# Altium schematic symbol library PPC_notebook_electrical_schematics_v0.6_Library.SchLib: 163 symbols (part 2 of 2)
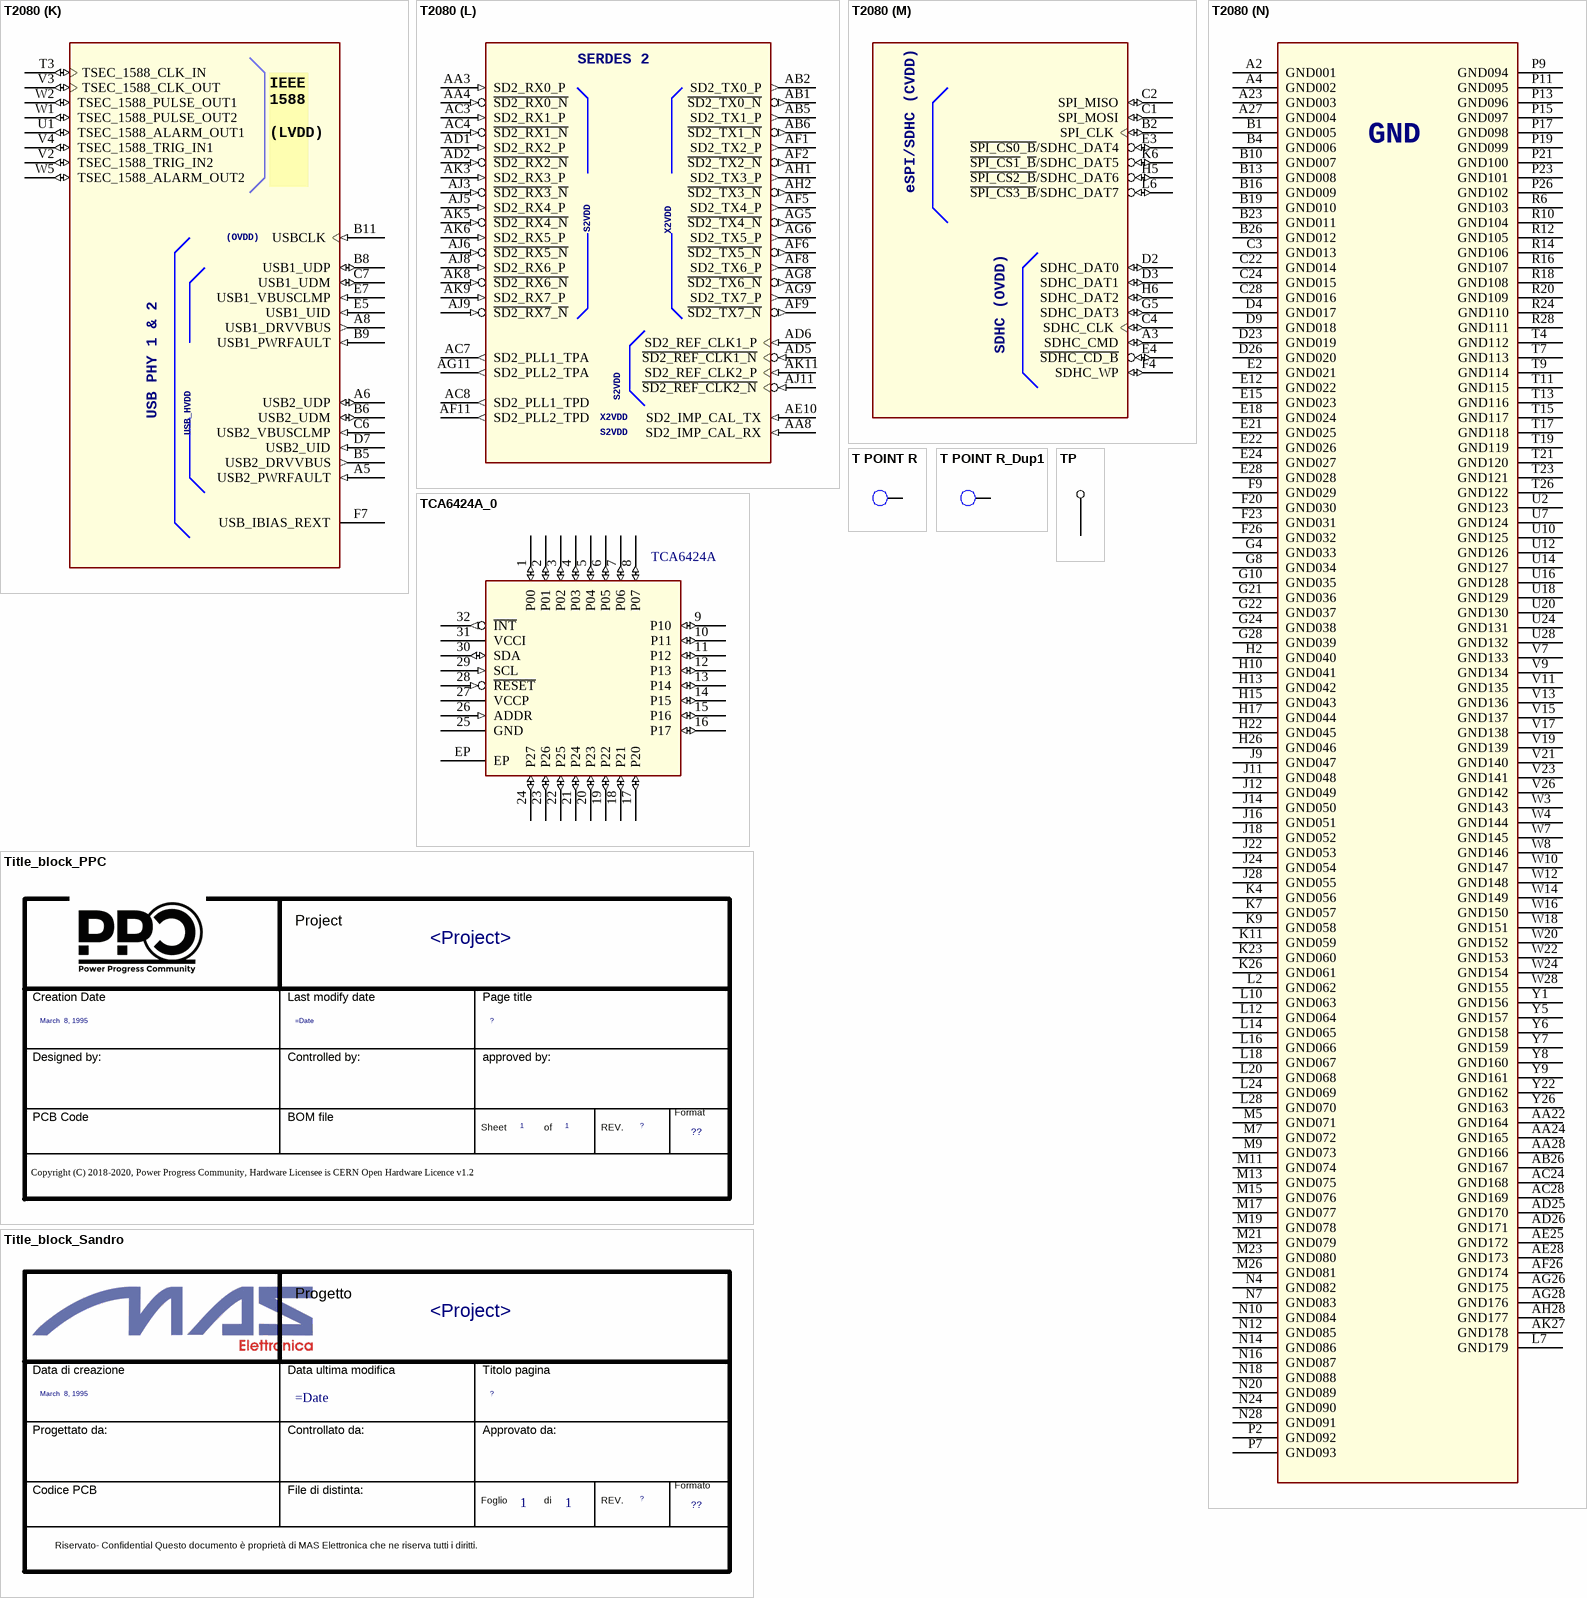
[diagram p14: symbols T2080 to TP]

## T2080
designator U?
footprint bga
part A pins: AA15 SD1_IMP_CAL_RX (in), AC22 SD1_IMP_CAL_TX (in), AD18 SD1_TX2_P (out), AD19 ~{SD1_TX2_N} (out), AD20 SD1_TX4_P (out), AD21 ~{SD1_TX4_N} (out), AD23 SD1_TX7_P (out), AD24 ~{SD1_TX7_N} (out), AE14 SD1_PLL1_TPD (out), AE15 SD1_PLL1_TPA (out), AE16 SD1_TX1_P (out), AE18 ~{SD1_TX3_N} (out), AE21 ~{SD1_TX5_N} (out), AE23 ~{SD1_TX6_N} (out), AF16 ~{SD1_TX1_N} (out), AF18 SD1_TX3_P (out), AF21 SD1_TX5_P (out), AF23 SD1_TX6_P (out), AF25 SD1_PLL2_TPA (out), AG14 SD1_TX0_P (out), AG15 ~{SD1_TX0_N} (out), AG25 SD1_PLL2_TPD (out), AH12 SD1_RX0_P (in), AH13 ~{SD1_RX0_N} (in), AH17 SD1_RX3_P (in), AH18 ~{SD1_RX3_N} (in), AH20 SD1_RX5_P (in), AH21 ~{SD1_RX5_N} (in), AH23 SD1_RX7_P (in), AH24 ~{SD1_RX7_N} (in), AJ13 ~{SD1_RX1_N} (in), AJ15 SD1_REF_CLK1_P (in), AJ17 SD1_RX2_P (in), AJ20 SD1_RX4_P (in), AJ23 SD1_RX6_P (in), AJ25 SD1_REF_CLK2_P (in), AK13 SD1_RX1_P (in), AK15 ~{SD1_REF_CLK1_N} (in), AK17 ~{SD1_RX2_N} (in), AK20 ~{SD1_RX4_N} (in), AK23 ~{SD1_RX6}_~{N} (in), AK25 ~{SD1_REF_CLK2_N} (in)
part B pins: B3 EMI2_MDC (out), F5 EMI2_MDIO (io), L1 EC1_RXD3 (io), L3 EC1_RX_CTL (io), M2 EC1_GTX_CLK125 (io), M3 EC1_TX_CTL (io), M4 EC1_RX_CLK (io), N1 EC1_TXD1 (io), N2 EC1_TXD2 (io), N3 EMI1_MDIO (io), N5 EC1_RXD1 (io), N6 EC1_RXD2 (io), P1 EC1_GTX_CLK (io), R1 EC2_RXD0 (io), R2 EC2_RXD3 (io), R3 EC2_TX_CTL (io), R4 EC1_TXD3 (io), R5 EC1_RXD0 (io), T1 EC2_GTX_CLK (io), T2 EC2_RXD1 (io), T5 EMI1_MDC (out), T6 EC1_TXD0 (io), U3 EC2_TXD2 (io), U4 EC2_RXD2 (io), U5 EC2_TXD1 (io), U6 EC2_RX_CTL (io), V1 EC2_GTX_CLK125 (io), V5 EC2_TXD3 (io), V6 EC2_RX_CLK (io), W6 EC2_TXD0 (io)
part C pins: A13 IFC_AD00 (io), A14 IFC_AD11 (io), A15 IFC_AD04 (io), A16 IFC_A20 (io), A17 IFC_PAR1 (io), A18 ~{IFC_WP0_B} (io), A19 IFC_TE (io), A22 IFC_CLK0 (out), B14 IFC_A21 (io), B15 IFC_AD13 (io), B17 ~{IFC_CS3_B} (io), B18 IFC_A23 (io), B20 IFC_CLK1 (out), B21 IFC_A30 (io), C13 IFC_AD12 (io), C14 IFC_AD02 (io), C15 IFC_A17 (io), C16 IFC_A24 (io), C17 IFC_AVD (io), C18 ~{IFC_CS5_B} (io), C19 ~{IFC_RB1_B} (in), D13 IFC_AD03 (io), D14 IFC_AD15 (io), D15 IFC_A18 (io), D16 IFC_A26 (io), D17 ~{IFC_WE0_B} (io), D18 IFC_NDDDR_CLK (out), D19 ~{IFC_CS2_B} (io), D21 ~{IFC_CS6_B} (io), E13 IFC_AD08 (io), E14 IFC_AD06 (io), E16 IFC_A31 (io), E17 IFC_A25 (io), E19 ~{IFC_CS4_B} (io), F13 IFC_AD05 (io), F14 IFC_AD09 (io), F15 IFC_AD14 (io), F16 IFC_A28 (io), F17 ~{IFC_CS1_B} (io), F18 IFC_PAR0 (io), F19 ~{IFC_PERR_B} (io), G13 IFC_AD01 (io), G14 IFC_A19 (io), G15 IFC_A16 (io), G16 IFC_A29 (io), G17 IFC_A27 (io), G18 ~{IFC_OE_B} (io), G19 ~{IFC_CS7_B} (io), H14 IFC_AD10 (io), H16 ~{IFC_CS0_B} (io), H18 IFC_BCTL (out), H19 IFC_CLE (io), J13 IFC_AD07 (io), J15 IFC_A22 (io), J17 ~{IFC_RB0_B} (in), J19 IFC_NDDQS (io)
part D pins: G2 IIC1_SDA (oc), H3 IIC1_SCL (oc), H4 IIC2_SCL (oc), J2 IIC3_SDA (oc), J6 IIC3_SCL (oc), K1 IIC4_SCL/~{EVT_B5} (oc), K2 IIC2_SDA (oc), M1 IIC4_SDA/~{EVT_B6} (oc)
part E pins: A10 SYSCLK (in), A11 ASLEEP (io), A12 ~{EVT0_B} (io), A20 RTC (io), A21 TMS (in), B12 ~{EVT1_B} (io), B22 ~{TRST_B} (in), C9 ~{TEST_SEL_B} (in), C10 IRQ03/SDHC_VS (io), C11 ~{EVT3_B} (io), C12 ~{IRQ_OUT_B}/~{EVT_B9} (io), C20 TCK (in), C21 ~{TMP_DETECT_B} (io), D1 IRQ11 (io), D10 IRQ02 (io), D11 IRQ05 (io), D12 ~{RESET_REQ_B} (io), D20 ~{CKSTP_OUT_B} (oc), D22 TDI (in), E1 ~{DMA1_DACK0_B} (io), E10 CLK_OUT (out), E11 IRQ01 (io), E20 TDO (out), F3 ~{DMA2_DREQ0_B} (io), F10 ~{PORESET_B} (in), F11 ~{HRESET_B} (io), F12 ~{EVT4_B} (io), G3 ~{DMA2_DDONE0_B}/~{EVT_B8} (io), G11 IRQ00 (io), G12 ~{EVT2_B} (io), H1 ~{DMA2_DACK0_B}/~{EVT_B7} (io), H11 ~{SCAN_MODE_B} (in), H12 IRQ04 (io), J5 IRQ10/SDHC_SYNC_IN (io), J21 TD1_CATHODE, K5 ~{DMA1_DDONE0_B} (io), K22 TD1_ANODE, L5 ~{DMA1_DREQ0_B} (io), P3 IRQ07 (io), P4 IRQ09 (io), P5 IRQ06 (io), P6 IRQ08 (io), R7 ~{LP_TMP_DETECT_B} (in)
part F pins: A29 G1VDD9 (power), AA9 S2VDD6 (power), AB22 X1VDD1 (power), AB29 G1VDD21 (power), AD16 X1VDD2 (power), AD29 G1VDD22 (power), AE3 X2VDD1 (power), AE11 X2VDD2 (power), AF29 G1VDD23 (power), AG3 X2VDD3 (power), AG17 X1VDD3 (power), AG19 X1VDD4 (power), AG20 X1VDD5 (power), AG22 X1VDD6 (power), AG24 X1VDD7 (power), AH4 X2VDD4 (power), AH7 X2VDD5 (power), AH10 X2VDD6 (power), AJ30 G1VDD24 (power), AK29 G1VDD25 (power), B30 G1VDD10 (power), D29 G1VDD11 (power), E8 PROG_MTR (power), E9 PROG_SFP (power), F29 G1VDD12 (power), H20 FA_VL (power), H29 G1VDD13 (power), K8 OVDD1 (power), K10 TH_VDD (power), K12 OVDD2 (power), K13 OVDD3 (power), K14 OVDD4 (power), K15 OVDD5 (power), K16 OVDD6 (power), K17 OVDD7 (power), K18 OVDD8 (power), K19 OVDD9 (power), K20 OVDD10 (power), K29 G1VDD14 (power), L8 OVDD11 (power), L22 G1VDD1 (power), M6 CVDD1 (power), M8 CVDD2 (power), M22 G1VDD2 (power), M29 G1VDD15 (power), N8 DVDD1 (power), N22 G1VDD3 (power), P8 DVDD2 (power), P22 G1VDD4 (power), P29 G1VDD16 (power), R8 VDD_LP (power), R22 G1VDD5 (power), T8 LVDD1 (power), T22 G1VDD6 (power), T29 G1VDD17 (power), T30 G1VDD18 (power), U8 LVDD2 (power), U22 G1VDD7 (power), V8 LVDD3 (power), V22 G1VDD8 (power), V29 G1VDD19 (power), Y11 S2VDD1 (power), Y12 S2VDD2 (power), Y13 S2VDD3 (power), Y14 S2VDD4 (power), Y15 S2VDD5 (power), Y16 S1VDD1 (power), Y17 S1VDD2 (power), Y18 S1VDD3 (power), Y19 S1VDD4 (power), Y20 S1VDD5 (power), Y21 S1VDD6 (power), Y29 G1VDD20 (power)
part G pins: A7 USB_HVDD1 (power), AB11 AVDD_SD2_PLL1 (power), AB14 AVDD_SD2_PLL2 (power), AB17 AVDD_SD1_PLL1 (power), AB20 AVDD_SD1_PLL2 (power), C8 USB_HVDD2 (power), F6 USB_SVDD1 (power), F8 TH_TPA, F22 AVDD_D1 (power), G7 USB_SVDD2 (power), G9 AVDD_CGA2 (power), G20 FA_ANALOG_PIN, H9 AVDD_CGA1 (power), H21 FA_ANALOG_G_V, J7 USB_OVDD1 (power), J8 USB_OVDD2 (power), J10 AVDD_PLAT (power), J20 SENSEVDD, K21 SENSEGND, L9 VDD1 (power), L11 VDD2 (power), L13 VDD3 (power), L15 VDD4 (power), L17 VDD5 (power), L19 VDD6 (power), L21 VDD7 (power), M10 VDD8 (power), M12 VDD9 (power), M14 VDD10 (power), M16 VDD11 (power), M18 VDD12 (power), M20 VDD13 (power), N9 VDD14 (power), N11 VDD15 (power), N13 VDD16 (power), N15 VDD17 (power), N17 VDD18 (power), N19 VDD19 (power), N21 VDD20 (power), P10 VDD21 (power), P12 VDD22 (power), P14 VDD23 (power), P16 VDD24 (power), P18 VDD25 (power), P20 VDD26 (power), R9 VDD27 (power), R11 VDD28 (power), R13 VDD29 (power), R15 VDD30 (power), R17 VDD31 (power), R19 VDD32 (power), R21 VDD33 (power), T10 VDD34 (power), T12 VDD35 (power), T14 VDD36 (power), T16 VDD37 (power), T18 VDD38 (power), T20 VDD39 (power), U9 VDD40 (power), U11 VDD41 (power), U13 VDD42 (power), U15 VDD43 (power), U17 VDD44 (power), U19 VDD45 (power), U21 VDD46 (power), V10 VDD47 (power), V12 VDD48 (power), V14 VDD49 (power), V16 VDD50 (power), V18 VDD51 (power), V20 VDD52 (power), W9 VDD53 (power), W11 VDD54 (power), W13 VDD55 (power), W15 VDD56 (power), W17 VDD57 (power), W19 VDD58 (power), W21 VDD59 (power), Y10 VDD60 (power)
part H pins: A9 USB_AGND1 (power), AA1 X2GND3 (power), AA2 X2GND4 (power), AA5 X2GND5 (power), AA6 X2GND6 (power), AA7 X2GND7 (power), AA10 S2GND1 (power), AA11 S2GND2 (power), AA12 S2GND3 (power), AA13 S2GND4 (power), AA14 S2GND5 (power), AA16 S2GND6 (power), AA17 S1GND1 (power), AA18 S1GND2 (power), AA19 S1GND3 (power), AA20 S1GND4 (power), AA21 S1GND5 (power), AB3 S2GND7 (power), AB4 S2GND8 (power), AB7 S2GND9 (power), AB8 S2GND10 (power), AB9 S2GND11 (power), AB10 AGND_SD2_PLL1 (power), AB12 S2GND12 (power), AB13 AGND_SD2_PLL2 (power), AB15 NC1, AB16 AGND_SD1_PLL1 (power), AB18 S1GND6 (power), AB19 AGND_SD1_PLL2 (power), AB21 X1GND1 (power), AC1 S2GND13 (power), AC2 S2GND14 (power), AC5 S2GND15 (power), AC6 S2GND16 (power), AC9 S2GND17 (power), AC10 S2GND18 (power), AC11 S2GND19 (power), AC12 S2GND20 (power), AC13 S2GND21 (power), AC14 S2GND22 (power), AC15 NC2, AC16 S1GND7 (power), AC17 S1GND8 (power), AC18 S1GND9 (power), AC19 S1GND10 (power), AC20 S1GND11 (power), AC21 X1GND2 (power), AC23 X1GND3 (power), AD3 S2GND23 (power), AD4 S2GND24 (power), AD7 S2GND25 (power), AD8 S2GND26 (power), AD9 NC3, AD10 X2GND8 (power), AD11 X2GND9 (power), AD12 NC4, AD13 NC5, AD14 NC6, AD15 S2GND27 (power), AD17 X1GND4 (power), AD22 X1GND5 (power), AE1 S2GND28 (power), AE2 S2GND29 (power), AE4 X2GND10 (power), AE5 S2GND30 (power), AE6 S2GND31 (power), AE7 X2GND11 (power), AE8 X2GND12 (power), AE9 X2GND13 (power), AE12 NC7, AE13 NC8, AE17 X1GND6 (power), AE19 X1GND7 (power), AE20 X1GND8 (power), AE22 X1GND9 (power), AE24 X1GND10 (power), AF3 X2GND14 (power), AF4 X2GND15 (power), AF7 X2GND16 (power), AF10 X2GND17 (power), AF12 X2GND18 (power), AF13 NC9, AF14 X1GND11 (power), AF15 X1GND12 (power), AF17 X1GND13 (power), AF19 X1GND14 (power), AF20 X1GND15 (power), AF22 X1GND16 (power), AF24 X1GND17 (power), AG1 X2GND19 (power), AG2 X2GND20 (power), AG4 X2GND21 (power), AG7 X2GND22 (power), AG10 X2GND23 (power), AG12 X2GND24 (power), AG13 X1GND18 (power), AG16 X1GND19 (power), AG18 X1GND20 (power), AG21 X1GND21 (power), AG23 X1GND22 (power), AH3 S2GND32 (power), AH5 S2GND33 (power), AH6 S2GND34 (power), AH8 S2GND35 (power), AH9 S2GND36 (power), AH11 S2GND37 (power), AH14 S1GND12 (power), AH15 S1GND13 (power), AH16 S1GND14 (power), AH19 S1GND15 (power), AH22 S1GND16 (power), AH25 S1GND17 (power), AJ1 X2GND25 (power), AJ2 X2GND26 (power), AJ4 S2GND38 (power), AJ7 S2GND39 (power), AJ10 S2GND40 (power), AJ12 S1GND18 (power), AJ14 S1GND19 (power), AJ16 S1GND20 (power), AJ18 S1GND21 (power), AJ19 S1GND22 (power), AJ21 S1GND23 (power), AJ22 S1GND24 (power), AJ24 S1GND25 (power), AJ26 S1GND26 (power), AK2 S2GND41 (power), AK4 S2GND42 (power), AK7 S2GND43 (power), AK10 S2GND44 (power), AK12 S1GND27 (power), AK14 S1GND28 (power), AK16 S1GND29 (power), AK18 S1GND30 (power), AK19 S1GND31 (power), AK21 S1GND32 (power), AK22 S1GND33 (power), AK24 S1GND34 (power), AK26 S1GND35 (power), B7 USB_AGND2 (power), C5 USB_AGND3 (power), D5 USB_AGND4 (power), D6 USB_AGND5 (power), D8 USB_AGND6 (power), E6 USB_AGND7 (power), G6 USB_AGND8 (power), H7 USB_AGND9 (power), H8 USB_AGND10 (power), Y2 ORIENTATION_(GND), Y3 X2GND1 (power), Y4 X2GND2 (power)
part I pins: A24 D1_MDQ01 (io), A25 D1_MDM0 (out), A26 D1_MDQS0 (io), A28 D1_MCKE3 (out), AA23 D1_MDQ54 (io), AA25 D1_MDQ55 (io), AA26 D1_MDM6 (out), AA27 D1_MDQ48 (io), AA29 D1_MBA1 (out), AA30 D1_MAPAR_OUT (out), AB23 D1_MDQ53 (io), AB24 D1_MDQ52 (io), AB25 D1_MDQS6 (io), AB27 D1_MDQ50 (io), AB28 D1_MDQ49 (io), AB30 D1_MA10 (out), AC25 D1_MDQ59 (io), AC26 ~{D1_MDQS6_B} (io), AC27 D1_MDQ51 (io), AC29 ~{D1_MRAS_B} (out), AC30 D1_MBA0 (out), AD27 D1_MDQ57 (io), AD28 D1_MDQ56 (io), AD30 ~{D1_MCS0_B} (out), AE26 D1_MDQ63 (io), AE27 D1_MDQ58 (io), AE29 ~{D1_MCAS_B} (out), AE30 ~{D1_MWE_B} (out), AF27 D1_MDQ61 (io), AF28 D1_MDQ60 (io), AF30 D1_MODT2 (out), AG27 D1_MDQ62 (io), AG29 D1_MA13 (out), AG30 D1_MODT0 (out), AH26 D1_MDQS7 (io), AH27 ~{D1_MDQS7_B} (io), AH29 D1_MODT1 (out), AH30 ~{D1_MCS1_B} (out), AJ27 D1_MDM7 (out), AJ28 ~{D1_MCS3_B} (out), AJ29 D1_MODT3 (out), AK28 ~{D1_MCS2_B} (out), B24 D1_MDQ00 (io), B25 ~{D1_MDQS0_B} (io), B27 D1_MDQ06 (io), B28 D1_MCKE1 (out), B29 D1_MCKE0 (out), C23 D1_TPA, C25 D1_MDQ02 (io), C26 D1_MDQ05 (io), C27 D1_MDQ07 (io), C29 D1_MA15 (out), C30 D1_MCKE2 (out), D24 D1_MDQ03 (io), D25 D1_MDQ04 (io), D27 D1_MDQ14 (io), D28 D1_MBA2 (out), D30 D1_MA14 (out), E23 D1_DDRCLK (in), E25 D1_MDQ12 (io), E26 D1_MDQ13 (io), E27 D1_MDM1 (out), E29 D1_MA12 (out), E30 ~{D1_MAPAR_ERR_B} (oc), F21 D1_MVREF (power), F24 D1_MDQ10 (io), F25 D1_MDQ11 (io), F27 ~{D1_MDQS1_B} (io), F28 D1_MDQS1 (io), F30 D1_MA09 (out), G23 D1_MDQ09 (io), G25 D1_MDQ15 (io), G26 D1_MDM2 (out), G27 D1_MDQS2 (io), G29 D1_MA07 (out), G30 D1_MA11 (out), H23 D1_MDQ08 (io), H24 D1_MDQ17 (io), H25 D1_MDQ18 (io), H27 ~{D1_MDQS2_B} (io), H28 D1_MDQ22 (io), H30 D1_MA08 (out), J23 D1_MDQ16 (io), J25 D1_MDQ20 (io), J26 D1_MDQ19 (io), J27 D1_MDQ21 (io), J29 D1_MA06 (out), J30 D1_MA05 (out), K24 D1_MDQ26 (io), K25 D1_MDM3 (out), K27 D1_MDQ27 (io), K28 D1_MDQ23 (io), K30 D1_MDIC0 (io), L23 D1_MDQ24 (io), L25 ~{D1_MDQS3_B} (io), L26 D1_MDQS3 (io), L27 D1_MDQ29 (io), L29 D1_MA04 (out), L30 D1_MA03 (out), M24 D1_MDQ28 (io), M25 D1_MDQ25 (io), M27 D1_MDQ30 (io), M28 D1_MDQ31 (io), M30 D1_MA02 (out), N23 D1_MECC1 (io), N25 D1_MECC0 (io), N26 D1_MECC2 (io), N27 D1_MECC3 (io), N29 D1_MDIC1 (io), N30 ~{D1_MCK0_B} (out), P24 D1_MECC7 (io), P25 D1_MDM8 (out), P27 D1_MDQS8 (io), P28 ~{D1_MDQS8_B} (io), P30 D1_MCK0 (out), R23 D1_MECC6 (io), R25 D1_MDQ36 (io), R26 D1_MECC5 (io), R27 D1_MECC4 (io), R29 ~{D1_MCK1_B} (out), R30 D1_MCK1 (out), T24 D1_MDQ38 (io), T25 D1_MDQ37 (io), T27 D1_MDQ32 (io), T28 D1_MDM4 (out), U23 D1_MDQ39 (io), U25 D1_MDQ34 (io), U26 D1_MDQ35 (io), U27 ~{D1_MDQS4_B} (io), U29 D1_MCK2 (out), U30 ~{D1_MCK2_B} (out), V24 D1_MDQ46 (io), V25 D1_MDQ44 (io), V27 D1_MDQ33 (io), V28 D1_MDQS4 (io), V30 ~{D1_MCK3_B} (out), W23 D1_MDQ47 (io), W25 D1_MDM5 (out), W26 ~{D1_MDQS5_B} (io), W27 D1_MDQS5 (io), W29 D1_MA01 (out), W30 D1_MCK3 (out), Y23 D1_MDQ45 (io), Y24 D1_MDQ43 (io), Y25 D1_MDQ42 (io), Y27 D1_MDQ41 (io), Y28 D1_MDQ40 (io), Y30 D1_MA00 (out)
part J pins: F1 ~{UART2_CTS_B} (io), F2 UART2_SIN (io), G1 ~{UART1_RTS_B} (io), J1 UART1_SOUT (io), J3 UART1_SIN (io), J4 ~{UART2_RTS_B} (io), K3 UART2_SOUT (io), L4 ~{UART1_CTS_B} (io)
part K pins: A5 USB2_PWRFAULT (in), A6 USB2_UDP (io), A8 USB1_DRVVBUS (out), B5 USB2_DRVVBUS (out), B6 USB2_UDM (io), B8 USB1_UDP (io), B9 USB1_PWRFAULT (in), B11 USBCLK (in), C6 USB2_VBUSCLMP (in), C7 USB1_UDM (io), D7 USB2_UID (in), E5 USB1_UID (in), E7 USB1_VBUSCLMP (in), F7 USB_IBIAS_REXT, T3 TSEC_1588_CLK_IN (io), U1 TSEC_1588_ALARM_OUT1 (io), V2 TSEC_1588_TRIG_IN2 (io), V3 TSEC_1588_CLK_OUT (io), V4 TSEC_1588_TRIG_IN1 (io), W1 TSEC_1588_PULSE_OUT2 (io), W2 TSEC_1588_PULSE_OUT1 (io), W5 TSEC_1588_ALARM_OUT2 (io)
part L pins: AA3 SD2_RX0_P (in), AA4 ~{SD2_RX0_N} (in), AA8 SD2_IMP_CAL_RX (in), AB1 ~{SD2_TX0_N} (out), AB2 SD2_TX0_P (out), AB5 SD2_TX1_P (out), AB6 ~{SD2_TX1_N} (out), AC3 SD2_RX1_P (in), AC4 ~{SD2_RX1_N} (in), AC7 SD2_PLL1_TPA (out), AC8 SD2_PLL1_TPD (out), AD1 SD2_RX2_P (in), AD2 ~{SD2_RX2_N} (in), AD5 ~{SD2_REF_CLK1_N} (in), AD6 SD2_REF_CLK1_P (in), AE10 SD2_IMP_CAL_TX (in), AF1 SD2_TX2_P (out), AF2 ~{SD2_TX2_N} (out), AF5 SD2_TX4_P (out), AF6 ~{SD2_TX5_N} (out), AF8 SD2_TX6_P (out), AF9 ~{SD2_TX7_N} (out), AF11 SD2_PLL2_TPD (out), AG5 ~{SD2_TX4_N} (out), AG6 SD2_TX5_P (out), AG8 ~{SD2_TX6_N} (out), AG9 SD2_TX7_P (out), AG11 SD2_PLL2_TPA (out), AH1 SD2_TX3_P (out), AH2 ~{SD2_TX3_N} (out), AJ3 ~{SD2_RX3}_~{N} (in), AJ5 SD2_RX4_P (in), AJ6 ~{SD2_RX5_N} (in), AJ8 SD2_RX6_P (in), AJ9 ~{SD2_RX7}_~{N} (in), AJ11 ~{SD2_REF_CLK2_N} (in), AK3 SD2_RX3_P (in), AK5 ~{SD2_RX4_N} (in), AK6 SD2_RX5_P (in), AK8 ~{SD2_RX6_N} (in), AK9 SD2_RX7_P (in), AK11 SD2_REF_CLK2_P (in)
part M pins: A3 SDHC_CMD (io), B2 SPI_CLK (io), C1 SPI_MOSI (io), C2 SPI_MISO (io), C4 SDHC_CLK (io), D2 SDHC_DAT0 (io), D3 SDHC_DAT1 (io), E3 ~{SPI_CS0_B}/SDHC_DAT4 (io), E4 ~{SDHC_CD_B} (io), F4 SDHC_WP (io), G5 SDHC_DAT3 (io), H5 ~{SPI_CS2_B}/SDHC_DAT6 (io), H6 SDHC_DAT2 (io), K6 ~{SPI_CS1}_~{B}/SDHC_DAT5 (io), L6 ~{SPI_CS3_B}/SDHC_DAT7 (io)
part N pins: A2 GND001 (power), A4 GND002 (power), A23 GND003 (power), A27 GND004 (power), AA22 GND164 (power), AA24 GND165 (power), AA28 GND166 (power), AB26 GND167 (power), AC24 GND168 (power), AC28 GND169 (power), AD25 GND170 (power), AD26 GND171 (power), AE25 GND172 (power), AE28 GND173 (power), AF26 GND174 (power), AG26 GND175 (power), AG28 GND176 (power), AH28 GND177 (power), AK27 GND178 (power), B1 GND005 (power), B4 GND006 (power), B10 GND007 (power), B13 GND008 (power), B16 GND009 (power), B19 GND010 (power), B23 GND011 (power), B26 GND012 (power), C3 GND013 (power), C22 GND014 (power), C24 GND015 (power), C28 GND016 (power), D4 GND017 (power), D9 GND018 (power), D23 GND019 (power), D26 GND020 (power), E2 GND021 (power), E12 GND022 (power), E15 GND023 (power), E18 GND024 (power), E21 GND025 (power), E22 GND026 (power), E24 GND027 (power), E28 GND028 (power), F9 GND029 (power), F20 GND030 (power), F23 GND031 (power), F26 GND032 (power), G4 GND033 (power), G8 GND034 (power), G10 GND035 (power), G21 GND036 (power), G22 GND037 (power), G24 GND038 (power), G28 GND039 (power), H2 GND040 (power), H10 GND041 (power), H13 GND042 (power), H15 GND043 (power), H17 GND044 (power), H22 GND045 (power), H26 GND046 (power), J9 GND047 (power), J11 GND048 (power), J12 GND049 (power), J14 GND050 (power), J16 GND051 (power), J18 GND052 (power), J22 GND053 (power), J24 GND054 (power), J28 GND055 (power), K4 GND056 (power), K7 GND057 (power), K9 GND058 (power), K11 GND059 (power), K23 GND060 (power), K26 GND061 (power), L2 GND062 (power), L7 GND179 (power), L10 GND063 (power), L12 GND064 (power), L14 GND065 (power), L16 GND066 (power), L18 GND067 (power), L20 GND068 (power), L24 GND069 (power), L28 GND070 (power), M5 GND071 (power), M7 GND072 (power), M9 GND073 (power), M11 GND074 (power), M13 GND075 (power), M15 GND076 (power), M17 GND077 (power), M19 GND078 (power), M21 GND079 (power), M23 GND080 (power), M26 GND081 (power), N4 GND082 (power), N7 GND083 (power), N10 GND084 (power), N12 GND085 (power), N14 GND086 (power), N16 GND087 (power), N18 GND088 (power), N20 GND089 (power), N24 GND090 (power), N28 GND091 (power), P2 GND092 (power), P7 GND093 (power), P9 GND094 (power), P11 GND095 (power), P13 GND096 (power), P15 GND097 (power), P17 GND098 (power), P19 GND099 (power), P21 GND100 (power), P23 GND101 (power), P26 GND102 (power), R6 GND103 (power), R10 GND104 (power), R12 GND105 (power), R14 GND106 (power), R16 GND107 (power), R18 GND108 (power), R20 GND109 (power), R24 GND110 (power), R28 GND111 (power), T4 GND112 (power), T7 GND113 (power), T9 GND114 (power), T11 GND115 (power), T13 GND116 (power), T15 GND117 (power), T17 GND118 (power), T19 GND119 (power), T21 GND120 (power), T23 GND121 (power), T26 GND122 (power), U2 GND123 (power), U7 GND124 (power), U10 GND125 (power), U12 GND126 (power), U14 GND127 (power), U16 GND128 (power), U18 GND129 (power), U20 GND130 (power), U24 GND131 (power), U28 GND132 (power), V7 GND133 (power), V9 GND134 (power), V11 GND135 (power), V13 GND136 (power), V15 GND137 (power), V17 GND138 (power), V19 GND139 (power), V21 GND140 (power), V23 GND141 (power), V26 GND142 (power), W3 GND143 (power), W4 GND144 (power), W7 GND145 (power), W8 GND146 (power), W10 GND147 (power), W12 GND148 (power), W14 GND149 (power), W16 GND150 (power), W18 GND151 (power), W20 GND152 (power), W22 GND153 (power), W24 GND154 (power), W28 GND155 (power), Y1 GND156 (power), Y5 GND157 (power), Y6 GND158 (power), Y7 GND159 (power), Y8 GND160 (power), Y9 GND161 (power), Y22 GND162 (power), Y26 GND163 (power)
part A text: SERDES 1; S1VDD; X1VDD
part B text: ETH. CNTR (RGMII)1; LVDD; ETH. CNTR (RGMII)2; ETH MII2 / (1V2); ETH MII1 / (LVDD)
part C text: IFC; (OVDD)
part D text: I2C (DVDD)
part E text: CNTR & MISC; SYS CNTR.; DMA (DVDD); DEBUG; OVDD; MPIC; LVDD; DFT; CVDD; (OVDD); DVDD; CLOCK; JTAG
part F text: PS; GENERAL I/O (1V8); DDR (1V35/1V5); eSPI(1V8/2V5); SERDES CORE LOGIC (1V0); UART,I2C,DMA / (1V8/2V5); ETH(2V5); (GND/1V89); SERDES TRANSCEIVER (1V35/1V5); (GND/1V0); 1V8; 1V0
part G text: PS; PLL SERDES / (1V35,1V5/0V) / (XVDD / filtered); PLL CORE GROUP; PLL PLATFORM; 1V8; PLL DDR; USB ANALOG (1V0); USB / TRANSCEIVER; 3V3; CORES & PLATFORM (1V0); 1V0
part H text: GND; PACKAGE_NC (A1); PACKAGE_NC (A30); PACKAGE_NC (AK1); PACKAGE_NC (AK30)
part I text: DDR1 / (G1VDD); OVDD; G1VDD/2
part J text: DUART (DVDD)
part K text: IEEE 1588 / (LVDD); (OVDD); USB PHY 1 & 2; USB_HVDD
part L text: SERDES 2; S2VDD; X2VDD
part M text: eSPI/SDHC (CVDD); SDHC (OVDD)
part N text: GND

## T POINT R
designator TP?  (value not drawn)
pins: 1 TP

## T POINT R_Dup1
designator TP?  (value not drawn)
pins: 1 TP

## TCA6424A_0
designator U?, comment TCA6424A
LOW-VOLTAGE 24-BIT I2C I/O EXPANDER; Manufacturer p/n: TCA6424ARGJR; Manufacturer: TI
footprint QFN32
pins: 1 P00 (io), 2 P01 (io), 3 P02 (io), 4 P03 (io), 5 P04 (io), 6 P05 (io), 7 P06 (io), 8 P07 (io), 9 P10 (io), 10 P11 (io), 11 P12 (io), 12 P13 (io), 13 P14 (io), 14 P15 (io), 15 P16 (io), 16 P17 (io), 17 P20 (io), 18 P21 (io), 19 P22 (io), 20 P23 (io), 21 P24 (io), 22 P25 (io), 23 P26 (io), 24 P27 (io), 25 GND (power), 26 ADDR (in), 27 VCCP (power), 28 ~{RESET} (in), 29 SCL (in), 30 SDA (io), 31 VCCI (power), 32 ~{INT} (out), EP

## Title_block_PPC
designator *  Page Count: 1  Page Create Date: March  8, 1995  Page Size: ??  Title: <Project>  (hidden comment: *)  (graphical)
Page Number: 1; Page Title: ?; RevCode: ?; Page Modify Date: =Date
text: Project; Creation Date; Last modify date; Page title; Designed by:; Controlled by:; approved by:; Format; PCB Code; BOM file; Sheet; of; REV.; Copyright (C) 2018-2020, Power Progress Community, Hardware Licensee is CERN Open Hardware Licence v1.2

## Title_block_Sandro
designator *  Page Count: 1  Page Size: ??  Title: <Project>  Page Create Date: March  8, 1995  (hidden comment: *)  (graphical)
Page Number: 1; RevCode: ?; Page Title: ?; Page Modify Date: =Date
text: Progetto; Data di creazione; Data ultima modifica; Titolo pagina; Progettato da:; Controllato da:; Approvato da:; Formato; Codice PCB; File di distinta:; Foglio; di; REV.; Riservato- Confidential Questo documento è proprietà di MAS Elettronica che ne riserva tutti i diritti.

## TP
designator TP?  (value not drawn)
footprint tp
pins: 1 TP

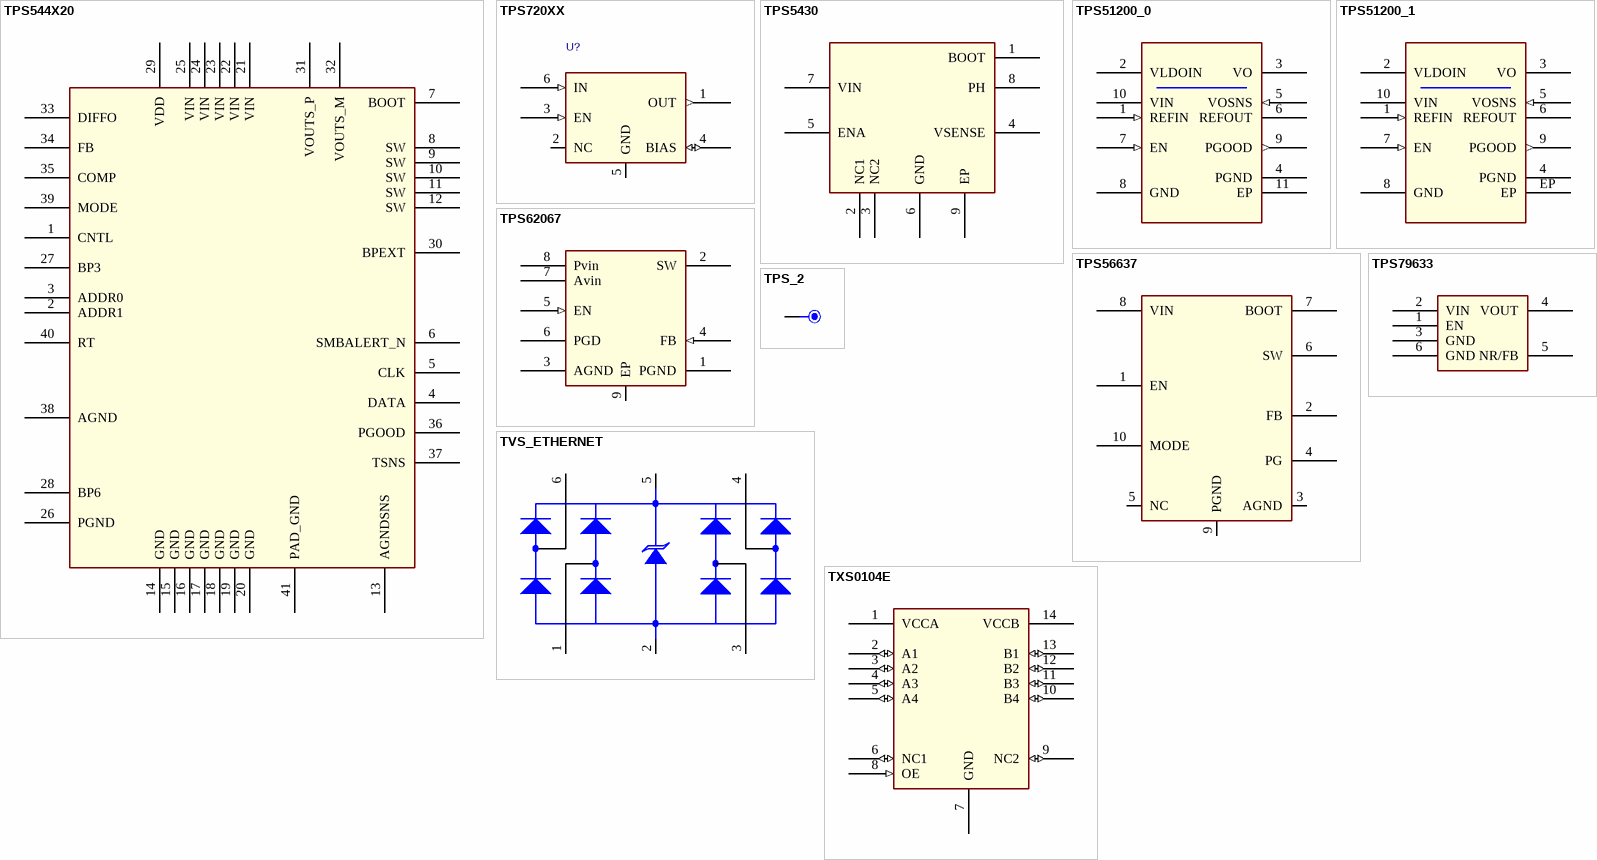
[diagram p12: symbols TPS544X20 to TXS0104E]

## TPS544X20
designator U?
pins: 1 CNTL, 2 ADDR1, 3 ADDR0, 4 DATA, 5 CLK, 6 SMBALERT_N, 7 BOOT, 8 SW, 9 SW, 10 SW, 11 SW, 12 SW, 13 AGNDSNS, 14 GND, 15 GND, 16 GND, 17 GND, 18 GND, 19 GND, 20 GND, 21 VIN, 22 VIN, 23 VIN, 24 VIN, 25 VIN, 26 PGND, 27 BP3, 28 BP6, 29 VDD, 30 BPEXT, 31 VOUTS_P, 32 VOUTS_M, 33 DIFFO, 34 FB, 35 COMP, 36 PGOOD, 37 TSNS, 38 AGND, 39 MODE, 40 RT, 41 PAD_GND

## TPS720XX
designator U?  (value not drawn)
Instance: ?
pins: 1 OUT (out), 2 NC (io), 3 EN (in), 4 BIAS (io), 5 GND, 6 IN (in)

## TPS5430
designator U?
pins: 1 BOOT, 2 NC1, 3 NC2, 4 VSENSE, 5 ENA, 6 GND, 7 VIN, 8 PH, 9 EP

## TPS51200_0
designator U?
footprint QFN-10
pins: 1 REFIN (in), 2 VLDOIN (power), 3 VO (power), 4 PGND (power), 5 VOSNS (in), 6 REFOUT (power), 7 EN (in), 8 GND (power), 9 PGOOD (out), 10 VIN (power), 11 EP (power)

## TPS51200_1
designator U?
footprint QFN-10
pins: 1 REFIN (in), 2 VLDOIN (power), 3 VO (power), 4 PGND (power), 5 VOSNS (in), 6 REFOUT (power), 7 EN (in), 8 GND (power), 9 PGOOD (out), 10 VIN (power), EP (power)

## TPS56637
designator U?
pins: 1 EN, 2 FB, 3 AGND, 4 PG, 5 NC, 6 SW, 7 BOOT, 8 VIN, 9 PGND, 10 MODE

## TPS62067
designator U?
pins: 1 PGND (power), 2 SW, 3 AGND (power), 4 FB (in), 5 EN (in), 6 PGD (oc), 7 Avin (power), 8 Pvin (power), 9 EP

## TPS79633
designator U?
footprint SOT223-6
pins: 1 EN, 2 VIN, 3 GND, 4 VOUT, 5 NR/FB, 6 GND

## TPS_2
designator TP?
Test Point, .025 sq pin; Mfr_Part_Number: Cut From Strip; MFR_Name: Samtec
footprint TPS
pins: 1

## TVS_ETHERNET
designator TVS?
pins: 1 IO1, 2 GND, 3 IO2, 4 IO3, 5 VCC, 6 IO4

## TXS0104E
designator U?
footprint TSSOP14
pins: 1 VCCA (power), 2 A1 (io), 3 A2 (io), 4 A3 (io), 5 A4 (io), 6 NC1 (io), 7 GND (power), 8 OE (in), 9 NC2 (io), 10 B4 (io), 11 B3 (io), 12 B2 (io), 13 B1 (io), 14 VCCB (power)

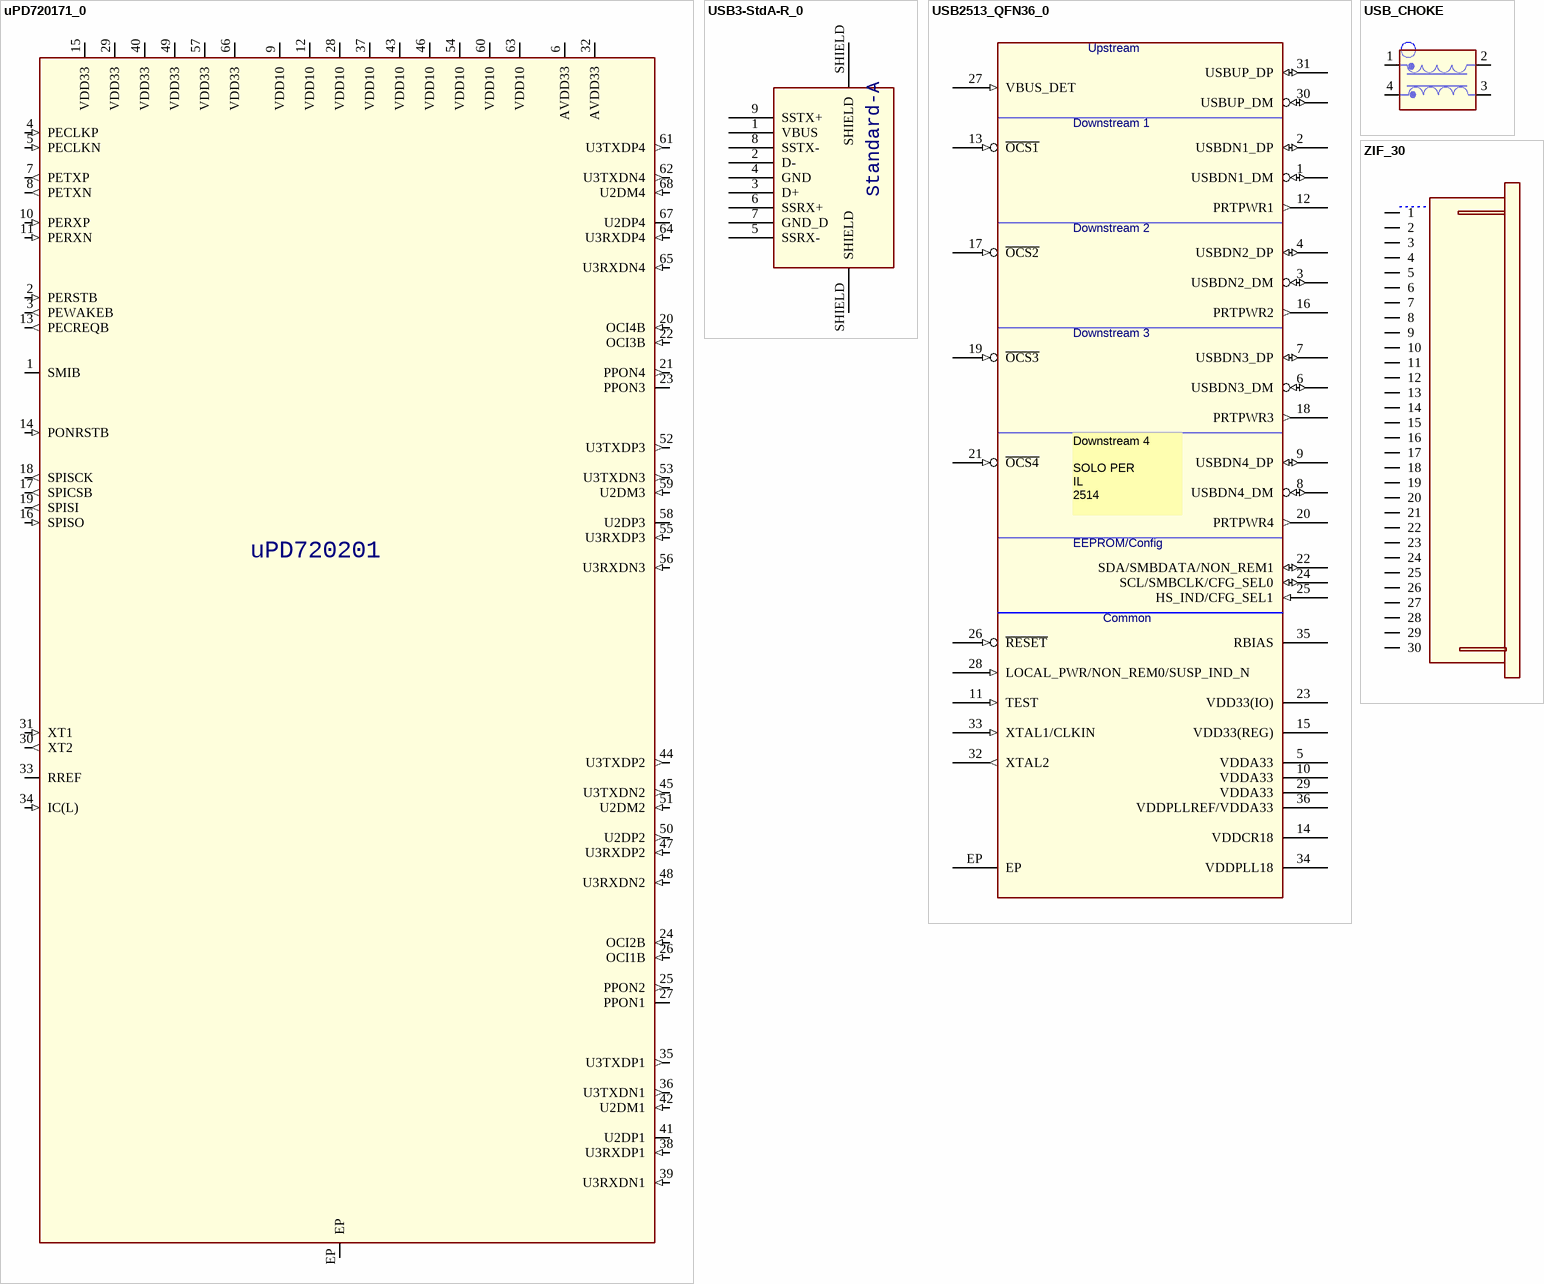
[diagram p13: symbols uPD720171_0 to ZIF_30]

## uPD720171_0
designator U?  (value not drawn)
pins: 1 SMIB (io), 2 PERSTB (in), 3 PEWAKEB (out), 4 PECLKP (in), 5 PECLKN (in), 6 AVDD33 (power), 7 PETXP (out), 8 PETXN (out), 9 VDD10 (power), 10 PERXP (in), 11 PERXN (in), 12 VDD10 (power), 13 PECREQB (out), 14 PONRSTB (in), 15 VDD33 (power), 16 SPISO (in), 17 SPICSB (out), 18 SPISCK (out), 19 SPISI (out), 20 OCI4B (in), 21 PPON4 (out), 22 OCI3B (in), 23 PPON3 (io), 24 OCI2B (in), 25 PPON2 (out), 26 OCI1B (in), 27 PPON1 (io), 28 VDD10 (power), 29 VDD33 (power), 30 XT2 (out), 31 XT1 (in), 32 AVDD33 (power), 33 RREF, 34 IC(L) (in), 35 U3TXDP1 (out), 36 U3TXDN1 (out), 37 VDD10 (power), 38 U3RXDP1 (in), 39 U3RXDN1 (in), 40 VDD33 (power), 41 U2DP1 (io), 42 U2DM1 (in), 43 VDD10 (power), 44 U3TXDP2 (out), 45 U3TXDN2 (out), 46 VDD10 (power), 47 U3RXDP2 (in), 48 U3RXDN2 (in), 49 VDD33 (power), 50 U2DP2 (out), 51 U2DM2 (in), 52 U3TXDP3 (out), 53 U3TXDN3 (out), 54 VDD10 (power), 55 U3RXDP3 (in), 56 U3RXDN3 (in), 57 VDD33 (power), 58 U2DP3 (io), 59 U2DM3 (in), 60 VDD10 (power), 61 U3TXDP4 (out), 62 U3TXDN4 (out), 63 VDD10 (power), 64 U3RXDP4 (in), 65 U3RXDN4 (in), 66 VDD33 (power), 67 U2DP4 (io), 68 U2DM4 (in), EP (power)
text: uPD720201

## USB3-StdA-R_0
designator CN?
pins: 1 VBUS, 2 D-, 3 D+, 4 GND, 5 SSRX-, 6 SSRX+, 7 GND_D, 8 SSTX-, 9 SSTX+, SHIELD, SHIELD
text: Standard-A

## USB2513_QFN36_0
designator U?
pins: 1 USBDN1_DM (io), 2 USBDN1_DP (io), 3 USBDN2_DM (io), 4 USBDN2_DP (io), 5 VDDA33 (power), 6 USBDN3_DM (io), 7 USBDN3_DP (io), 8 USBDN4_DM (io), 9 USBDN4_DP (io), 10 VDDA33 (power), 11 TEST (in), 12 PRTPWR1 (out), 13 ~{OCS1} (in), 14 VDDCR18 (power), 15 VDD33(REG) (power), 16 PRTPWR2 (out), 17 ~{OCS2} (in), 18 PRTPWR3 (out), 19 ~{OCS3} (in), 20 PRTPWR4 (out), 21 ~{OCS4} (in), 22 SDA/SMBDATA/NON_REM1 (io), 23 VDD33(IO) (power), 24 SCL/SMBCLK/CFG_SEL0 (io), 25 HS_IND/CFG_SEL1 (in), 26 ~{RESET} (in), 27 VBUS_DET (in), 28 LOCAL_PWR/NON_REM0/SUSP_IND_N (in), 29 VDDA33 (power), 30 USBUP_DM (io), 31 USBUP_DP (io), 32 XTAL2 (out), 33 XTAL1/CLKIN (in), 34 VDDPLL18 (power), 35 RBIAS, 36 VDDPLLREF/VDDA33 (power), EP (power)
text: Upstream; Downstream 1; Downstream 2; Downstream 3; Downstream 4 / SOLO PER / IL / 2514; EEPROM/Config; Common

## USB_CHOKE
designator FL?
pins: 1, 2, 3, 4

## ZIF_30
designator J?
DEV: JFS_54132ZIF40P_01; DESIG: FPC CONNECTOR ZIP; REF: 54132-4097; BOI: 40 pins; FAB: MOLEX; VAL: 54132-4097
pins: 1, 2, 3, 4, 5, 6, 7, 8, 9, 10, 11, 12, 13, 14, 15, 16, 17, 18, 19, 20, 21, 22, 23, 24, 25, 26, 27, 28, 29, 30